# EAGLE library part M34556(42PIN) (library renesas_mcu)
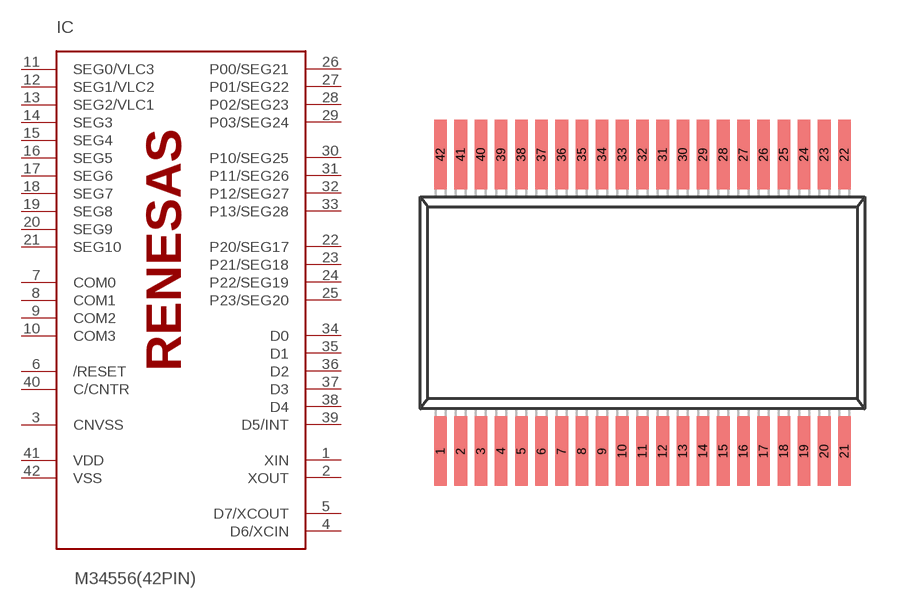
[diagram p57: symbol with the pads of 42P2R-A; footprint 42P2R-A]

Designator prefix IC

## M34556(42PIN)  [42P2R-A]
1  XIN  in
2  XOUT  out
3  CNVSS
4  D6/XCIN  in
5  D7/XCOUT  out
6  /RESET
7  COM0  out
8  COM1  out
9  COM2  out
10  COM3  out
11  SEG0/VLC3  out
12  SEG1/VLC2  out
13  SEG2/VLC1  out
14  SEG3  out
15  SEG4  out
16  SEG5  out
17  SEG6  out
18  SEG7  out
19  SEG8  out
20  SEG9  out
21  SEG10  out
22  P20/SEG17  out
23  P21/SEG18  out
24  P22/SEG19  out
25  P23/SEG20  out
26  P00/SEG21
27  P01/SEG22
28  P02/SEG23
29  P03/SEG24
30  P10/SEG25
31  P11/SEG26
32  P12/SEG27
33  P13/SEG28
34  D0  out
35  D1  out
36  D2  out
37  D3  out
38  D4  out
39  D5/INT
40  C/CNTR
41  VDD  pwr
42  VSS  pwr

## Footprint 42P2R-A (pad centres in mm)
smd 0.5 x 2.75: 1 -8,-5.875; 2 -7.2,-5.875; 3 -6.4,-5.875; 4 -5.6,-5.875; 5 -4.8,-5.875; 6 -4,-5.875; 7 -3.2,-5.875; 8 -2.4,-5.875; 9 -1.6,-5.875; 10 -0.8,-5.875; 11 0,-5.875; 12 0.8,-5.875; 13 1.6,-5.875; 14 2.4,-5.875; 15 3.2,-5.875; 16 4,-5.875; 17 4.8,-5.875; 18 5.6,-5.875; 19 6.4,-5.875; 20 7.2,-5.875; 21 8,-5.875; 22 8,5.875; 23 7.2,5.875; 24 6.4,5.875; 25 5.6,5.875; 26 4.8,5.875; 27 4,5.875; 28 3.2,5.875; 29 2.4,5.875; 30 1.6,5.875; 31 0.8,5.875; 32 0,5.875; 33 -0.8,5.875; 34 -1.6,5.875; 35 -2.4,5.875; 36 -3.2,5.875; 37 -4,5.875; 38 -4.8,5.875; 39 -5.6,5.875; 40 -6.4,5.875; 41 -7.2,5.875; 42 -8,5.875